# EAGLE library part HEADER-10PIN-* (library con-custom)
HARTING
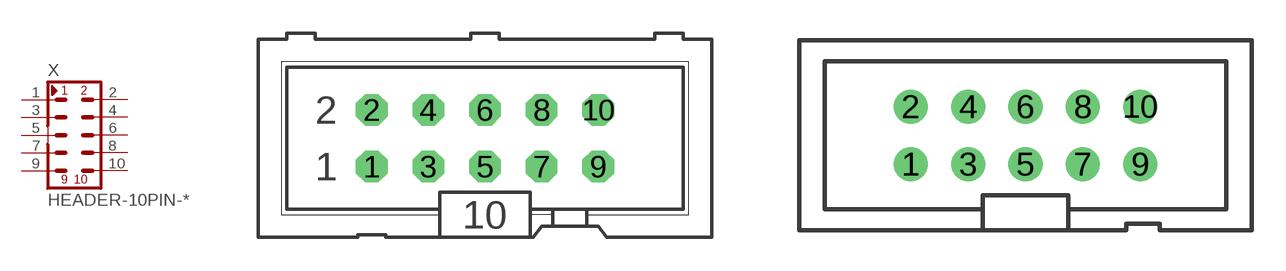
[diagram p8: symbol with the pads of ML10; footprints ML10, PAK100/2500-10]

Designator prefix X

## HEADER-10PIN-HARTING-V-SHRD-TH (OC_FARNELL: unknown; OC_NEWARK: unknown)  [ML10]
1  1  pas
2  2  pas
3  3  pas
4  4  pas
5  5  pas
6  6  pas
7  7  pas
8  8  pas
9  9  pas
10  10  pas

## HEADER-10PIN-3M-V-SHRD-TH  [PAK100/2500-10]
Pads as for ML10

## HEADER-10PIN-SAMTEC-V-SHRD-SMT (DESCRIPTION: 10 Pin male shrouded header; MFG: SAMTEC; MOUSER_PN: 200-HTST10501LDVPTR; MPN: HTST-105-01-L-DV-P-TR; VALUE: HEADER)  [SAMTEC-HTST-105-01-X-DV]
Pads as for ML10

## HEADER-10PIN-GENERIC-V-SHRD-SMT  [PAK100/2500-10-SMT]
Pads as for ML10

## HEADER-10PIN-AMPHENOL-V-SHRD-SMT (MFG: Amphenol ICC; MPN: 52601-G10-8TLF)  [PAK100/2500-10-SMT]
Pads as for ML10

## HEADER-10PIN-WURTH-V-SHRD-SMT (MFG: Wurth; MPN: 61231020621)  [PAK100/2500-10-SMT]
Pads as for ML10

## HEADER-10PIN-HARWIN-RA-SMT (MFG: HARWIN; MPN: M20-8891045)  [M208891045]
Pads as for ML10

## Footprint ML10 (pad centres in mm)
HARTING
drill 0.914 octagon: 1 -5.08,-1.27; 2 -5.08,1.27; 3 -2.54,-1.27; 4 -2.54,1.27; 5 0,-1.27; 6 0,1.27; 7 2.54,-1.27; 8 2.54,1.27; 9 5.08,-1.27; 10 5.08,1.27

## Footprint PAK100/2500-10 (pad centres in mm)
3M (TM) Pak 100 4-Wall Header Straight Source: 3M
drill 1 pad 1.422: 1 -5.08,-1.27; 2 -5.08,1.27; 3 -2.54,-1.27; 4 -2.54,1.27; 5 0,-1.27; 6 0,1.27; 7 2.54,-1.27; 8 2.54,1.27; 9 5.08,-1.27; 10 5.08,1.27

## Footprint SAMTEC-HTST-105-01-X-DV (pad centres in mm)
smd 1.27 x 5.08: 1 -5.08,-3.238; 2 -5.08,3.238; 3 -2.54,-3.238; 4 -2.54,3.238; 5 0,-3.238; 6 0,3.238; 7 2.54,-3.238; 8 2.54,3.238; 9 5.08,-3.238; 10 5.08,3.238

## Footprint PAK100/2500-10-SMT (pad centres in mm)
3M (TM) Pak 100 4-Wall Header Straight Source: 3M
smd 1.27 x 5.08: 1 -5.08,-3.238; 2 -5.08,3.238; 3 -2.54,-3.238; 4 -2.54,3.238; 5 0,-3.238; 6 0,3.238; 7 2.54,-3.238; 8 2.54,3.238; 9 5.08,-3.238; 10 5.08,3.238

## Footprint M208891045 (pad centres in mm)
M20-8891045-2
smd 1.02 x 3.17: 1 -11.43,-5.443; 2 -8.89,-5.443; 3 -6.35,-5.443; 4 -3.81,-5.443; 5 -1.27,-5.443; 6 1.27,-5.443; 7 3.81,-5.443; 8 6.35,-5.443; 9 8.89,-5.443; 10 11.43,-5.443